# EAGLE library part PIN2PIN-SOIC8 (library bb_93LC56B)
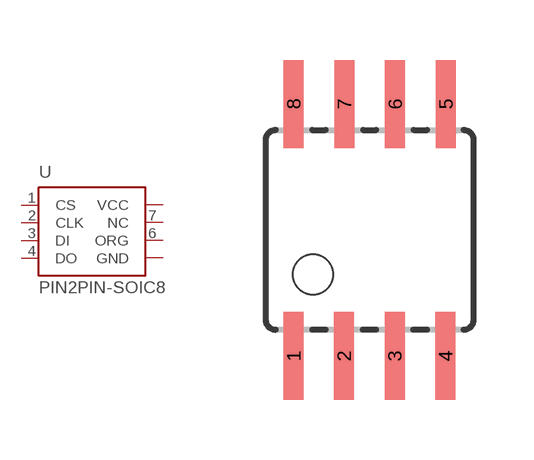
[diagram p2: symbol with the pads of SOIC8; footprint SOIC8]

Designator prefix U

## PIN2PIN-SOIC8  [SOIC8]
1  CS  in
2  CLK  in
3  DI  in
4  DO  hiz
5  GND  pwr
6  ORG
7  NC
8  VCC  pwr

## Footprint SOIC8 (pad centres in mm)
Wide Plastic Gull Wing Small Outline Package
smd 0.5 x 2.2: 1 -1.905,-3.154; 2 -0.645,-3.154; 3 0.625,-3.154; 4 1.895,-3.154; 5 1.905,3.154; 6 0.635,3.154; 7 -0.635,3.154; 8 -1.905,3.154